# Altium schematic symbol library APCI0105-P001A.SchLib: 1 symbol
Pins are listed as number, name and electrical type; pins without a type are passive.

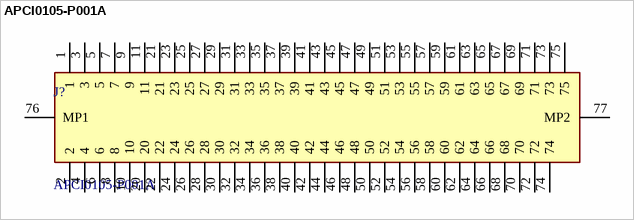
[diagram p0: symbol APCI0105-P001A]

## APCI0105-P001A
designator J?
M.2 0.5mm Surface Mount Right Angle SMD,P=0.5mm,Surface Mount Right Angle  Card Edge Connectors ROHS; Manufacturer_Name: LOTES; Geometry.Height: 4.2mm; Manufacturer_Part_Number: APCI0105-P001A; Mouser Part Number: *; Mouser Price/Stock: *; Arrow Part Number: *; Arrow Price/Stock: *; Datasheet Link: https://wmsc.lcsc.com/wmsc/upload/file/pdf/v2/lcsc/2010161204_LOTES-APCI0105-P001A_C841658.pdf
footprint APCI0105P001A
pins: 1, 2, 3, 4, 5, 6, 7, 8, 9, 10, 11, 20, 21, 22, 23, 24, 25, 26, 27, 28, 29, 30, 31, 32, 33, 34, 35, 36, 37, 38, 39, 40, 41, 42, 43, 44, 45, 46, 47, 48, 49, 50, 51, 52, 53, 54, 55, 56, 57, 58, 59, 60, 61, 62, 63, 64, 65, 66, 67, 68, 69, 70, 71, 72, 73, 74, 75, 76 MP1, 77 MP2